# Altium footprint library SG__PCB_MiniSat.PcbLib: 12 footprints (part 2 of 2)
Each footprint in its own frame and in the unit in brackets; x right, y up, seen from the top. Pads: shape width x height; smd on the part's side, far side on the other; paste and mask are expansions set on the pad; w line width, h text height; cw(c..) or ccw(c..) is an arc to the next point about the centre after c.
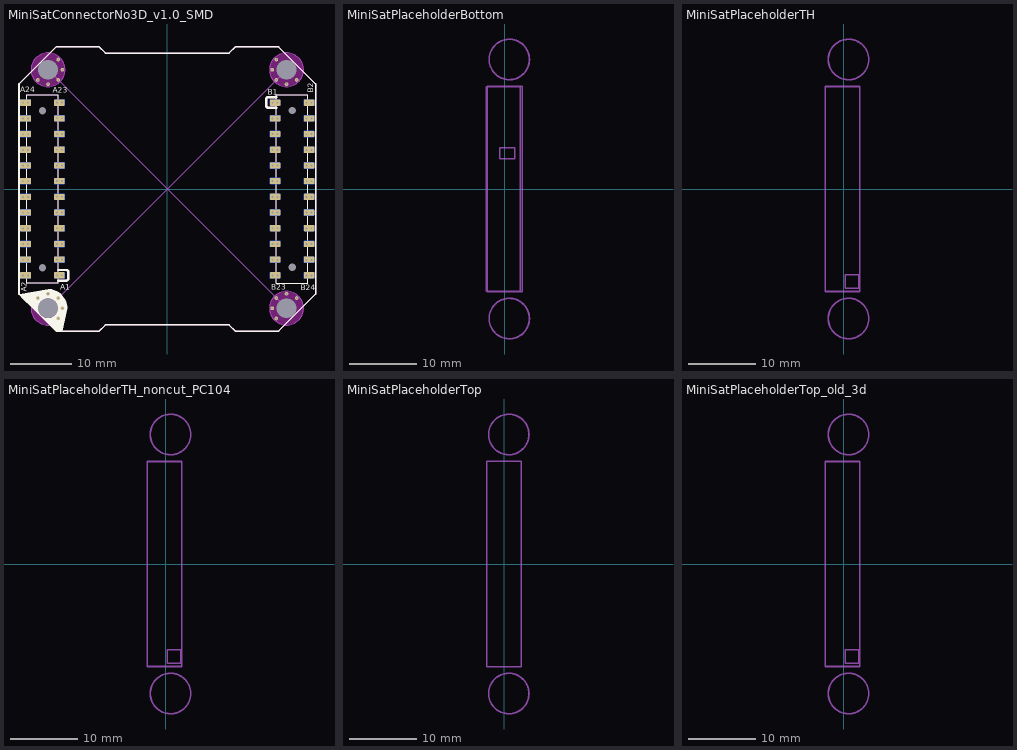
[diagram p1: the footprints below, top view; thin cyan lines are the x and y axes]

## MiniSatConnectorNo3D_v1.0_SMD [mm]
pads (220):
  round 0.6 hole 0.3 mask+0.102: 0(-20.947,-17.657) 0(-19.303,-16.973) 0(-17.657,-17.653) 0(-17.653,-20.943) 0(-16.973,-19.297)
  round 0.6 hole 0.3: 0(-20.943,17.653) 0(-19.297,16.973) 0(-17.657,20.947) 0(-17.653,17.657) 0(-16.973,19.303) 0(16.973,19.297) 0(16.973,-19.303) 0(17.653,20.943) 0(17.653,-17.657) 0(17.657,17.653) 0(17.657,-20.947) 0(19.297,-16.973) 0(19.303,16.973) 0(20.943,-17.653) 0(20.947,17.657) A1(-17.85,-13.965) A1(-17.05,-13.965) A2(-23.35,-13.995) A2(-22.55,-13.995) A3(-17.85,-11.425) A3(-17.05,-11.425) A4(-23.35,-11.455) A4(-22.55,-11.455) A5(-17.85,-8.885) A5(-17.05,-8.885) A6(-23.35,-8.915) A6(-22.55,-8.915) A7(-17.85,-6.345) A7(-17.05,-6.345) A8(-23.35,-6.375) A8(-22.55,-6.375) A9(-17.85,-3.805) A9(-17.05,-3.805) A10(-23.35,-3.835) A10(-22.55,-3.835) A11(-17.85,-1.265) A11(-17.05,-1.265) A12(-23.35,-1.295) A12(-22.55,-1.295) A13(-17.85,1.275) A13(-17.05,1.275) A14(-23.35,1.245) A14(-22.55,1.245) A15(-17.85,3.815) A15(-17.05,3.815) A16(-23.35,3.785) A16(-22.55,3.785) A17(-17.85,6.355) A17(-17.05,6.355) A18(-23.35,6.325) A18(-22.55,6.325) A19(-17.85,8.895) A19(-17.05,8.895) A20(-23.35,8.865) A20(-22.55,8.865) A21(-17.85,11.46) A21(-17.05,11.46) A22(-23.35,11.43) A22(-22.55,11.43) A23(-17.85,14) A23(-17.05,14) A24(-23.35,13.97) A24(-22.55,13.97) B1(17.05,13.968) B1(17.85,13.959) B2(22.55,13.95) B2(23.35,13.959) B3(17.05,11.428) B3(17.85,11.419) B4(22.55,11.41) B4(23.35,11.419) B5(17.05,8.888) B5(17.85,8.879) B6(22.55,8.87) B6(23.35,8.879) B7(17.05,6.348) B7(17.85,6.339) B8(22.55,6.33) B8(23.35,6.339) B9(17.05,3.808) B9(17.85,3.799) B10(22.55,3.79) B10(23.35,3.799) B11(17.05,1.268) B11(17.85,1.259) B12(22.55,1.25) B12(23.35,1.259) B13(17.05,-1.272) B13(17.85,-1.281) B14(22.55,-1.29) B14(23.35,-1.281) B15(17.05,-3.812) B15(17.85,-3.821) B16(22.55,-3.83) B16(23.35,-3.821) B17(17.05,-6.352) B17(17.85,-6.361) B18(22.55,-6.37) B18(23.35,-6.361) B19(17.05,-8.892) B19(17.85,-8.901) B20(22.55,-8.91) B20(23.35,-8.901) B21(17.05,-11.457) B21(17.85,-11.466) B22(22.55,-11.475) B22(23.35,-11.466) B23(17.05,-13.997) B23(17.85,-14.006) B24(22.55,-14.015) B24(23.35,-14.006)
  round 0 hole 1.2 unplated: 2(-20.2,12.675) 2(-20.2,-12.76) 2(20.2,12.703) 2(20.2,-12.697)
  rrect25% 1.7x1 smd: A1(-17.45,-13.97) A3(-17.45,-11.43) A5(-17.45,-8.89) A7(-17.45,-6.35) A9(-17.45,-3.81) A11(-17.45,-1.27) A13(-17.45,1.27) A15(-17.45,3.81) A17(-17.45,6.35) A19(-17.45,8.89) A21(-17.45,11.43) A23(-17.45,13.97) B1(17.45,13.973) B2(22.95,13.973) B3(17.45,11.433) B4(22.95,11.433) B5(17.45,8.893) B6(22.95,8.893) B7(17.45,6.353) B8(22.95,6.353) B9(17.45,3.813) B10(22.95,3.813) B11(17.45,1.273) B12(22.95,1.273) B13(17.45,-1.267) B14(22.95,-1.267) B15(17.45,-3.807) B16(22.95,-3.807) B17(17.45,-6.347) B18(22.95,-6.347) B19(17.45,-8.887) B20(22.95,-8.887) B21(17.45,-11.427) B22(22.95,-11.427) B23(17.45,-13.967) B24(22.95,-13.967)
  rrect25% 1.7x1 smd far side: A1(-17.45,-13.97) A2(-22.95,-13.97) A3(-17.45,-11.43) A4(-22.95,-11.43) A5(-17.45,-8.89) A6(-22.95,-8.89) A7(-17.45,-6.35) A8(-22.95,-6.35) A9(-17.45,-3.81) A10(-22.95,-3.81) A11(-17.45,-1.27) A12(-22.95,-1.27) A13(-17.45,1.27) A14(-22.95,1.27) A15(-17.45,3.81) A16(-22.95,3.81) A17(-17.45,6.35) A18(-22.95,6.35) A19(-17.45,8.89) A20(-22.95,8.89) A21(-17.45,11.43) A22(-22.95,11.43) A23(-17.45,13.97) A24(-22.95,13.97) B1(17.45,13.973) B2(22.95,13.973) B3(17.45,11.433) B4(22.95,11.433) B5(17.45,8.893) B6(22.95,8.893) B7(17.45,6.353) B8(22.95,6.353) B9(17.45,3.813) B10(22.95,3.813) B11(17.45,1.309) B12(22.95,1.273) B13(17.45,-1.231) B14(22.95,-1.267) B15(17.45,-3.807) B16(22.95,-3.807) B17(17.45,-6.347) B18(22.95,-6.347) B19(17.45,-8.887) B20(22.95,-8.887) B21(17.45,-11.427) B22(22.95,-11.427) B23(17.45,-13.967) B24(22.95,-13.967)
  rrect25% 1.8x1 smd: A2(-22.95,-13.97) A4(-22.95,-11.43) A6(-22.95,-8.89) A8(-22.95,-6.35) A10(-22.95,-3.81) A12(-22.95,-1.27) A14(-22.95,1.27) A16(-22.95,3.81) A18(-22.95,6.35) A20(-22.95,8.89) A22(-22.95,11.43) A24(-22.95,13.97)
  round 1 hole 3.2 unplated mask-0.5: NC(-19.3,-19.3) NC(-19.3,19.3) NC(19.3,-19.3) NC(19.3,19.3)
Top Overlay:
  region: -17,-23 -16.2,-19.3 -16.2,-19.097 -16.253,-18.694 -16.358,-18.301 -16.514,-17.926 -16.717,-17.574 -16.964,-17.252 -17.252,-16.964 -17.574,-16.717 -17.926,-16.514 -18.301,-16.358 -18.694,-16.253 -19.097,-16.2 -19.3,-16.2 -24,-17 -23.567,-17.6 -19.3,-17.7 -19.143,-17.708 -18.836,-17.769 -18.546,-17.889 -18.285,-18.063 -18.063,-18.285 -17.889,-18.546 -17.769,-18.836 -17.708,-19.143 -17.7,-19.3 -17.5,-23
  region: -17.7,-19.3 -17.708,-19.457 -17.769,-19.764 -17.889,-20.054 -18.063,-20.315 -18.285,-20.537 -18.546,-20.711 -18.836,-20.831 -19.143,-20.892 -19.3,-20.9 -19.457,-20.892 -19.764,-20.831 -20.054,-20.711 -20.315,-20.537 -20.537,-20.315 -20.711,-20.054 -20.831,-19.765 -20.892,-19.457 -20.9,-19.3 -20.892,-19.143 -20.831,-18.836 -20.711,-18.546 -20.537,-18.285 -20.315,-18.063 -20.054,-17.889 -19.765,-17.769 -19.457,-17.708 -19.3,-17.7 -19.3,-17.6 -23.567,-17.6 -18,-22.975 -17.225,-22.975 -17.066,-19.3
  lines w0.2: -22.74,-15.21 -17.66,-15.21 -17.66,15.27 -22.74,15.27 -22.74,-15.21 ; 17.66,-15.231 22.74,-15.231 22.74,15.249 17.66,15.249 17.66,-15.231
  lines w0.254: -24,-17 -18,-23 -11,-23 -10,-22 10,-22 11,-23 18,-23 24,-17 24,17 18,23 11,23 10,22 -10,22 -11,23 -18,23 -24,17 -24,-17
  lines w0.381: -17.653,-14.833 -16.358,-14.833 ccw(c-16.358,-14.503) -16.027,-14.503 -16.027,-13.436 ccw(c-16.358,-13.436) -16.358,-13.106 -17.628,-13.106 ; 17.628,13.145 16.358,13.145 cw(c16.358,13.476) 16.027,13.476 16.027,14.542 cw(c16.358,14.542) 16.358,14.873 17.653,14.873
  text "B23" at 16.813,-16.305 h0.9
  text "B24" at 21.593,-16.363 h0.9
  text "A1" at -17.323,-16.314 h0.9
  text "B1" at 16.285,15.222 h0.9
  text "A2" at -22.747,-16.668 h0.9
  text "A23" at -18.54,15.559 h0.9
  text "A24" at -23.806,15.622 h0.9
  text "B2" at 23.658,15.571 h0.9
Bottom Overlay:
  region: -17.7,-19.3 -17.708,-19.457 -17.769,-19.764 -17.889,-20.054 -18.063,-20.315 -18.285,-20.537 -18.546,-20.711 -18.836,-20.831 -19.143,-20.892 -19.3,-20.9 -19.457,-20.892 -19.764,-20.831 -20.054,-20.711 -20.315,-20.537 -20.537,-20.315 -20.711,-20.054 -20.831,-19.765 -20.892,-19.457 -20.9,-19.3 -20.892,-19.143 -20.831,-18.836 -20.711,-18.546 -20.537,-18.285 -20.315,-18.063 -20.054,-17.889 -19.765,-17.769 -19.457,-17.708 -19.3,-17.7 -19.3,-17.6 -23.567,-17.6 -18,-23 -17.066,-23 -17.066,-19.3
  region: -17,-23 -16.2,-19.3 -16.2,-19.097 -16.253,-18.694 -16.358,-18.301 -16.514,-17.926 -16.717,-17.574 -16.964,-17.252 -17.252,-16.964 -17.574,-16.717 -17.926,-16.514 -18.301,-16.358 -18.694,-16.253 -19.097,-16.2 -19.3,-16.2 -24,-17 -23.567,-17.6 -19.3,-17.7 -19.143,-17.708 -18.836,-17.769 -18.546,-17.889 -18.285,-18.063 -18.063,-18.285 -17.889,-18.546 -17.769,-18.836 -17.708,-19.143 -17.7,-19.3 -17.612,-23
  lines w0.2: -22.74,-15.21 -17.66,-15.21 -17.66,15.27 -22.74,15.27 -22.74,-15.21 ; 17.66,-15.231 22.74,-15.231 22.74,15.249 17.66,15.249 17.66,-15.231
  lines w0.254: -24,-17 -18,-23 -11,-23 -10,-22 10,-22 11,-23 18,-23 24,-17 24,17 18,23 11,23 10,22 -10,22 -11,23 -18,23 -24,17 -24,-17
  lines w0.381: -17.653,-14.838 -16.358,-14.838 ccw(c-16.358,-14.508) -16.027,-14.508 -16.027,-13.441 ccw(c-16.358,-13.441) -16.358,-13.111 -17.628,-13.111 ; -17.653,-14.833 -16.358,-14.833 ccw(c-16.358,-14.503) -16.027,-14.503 -16.027,-13.436 ccw(c-16.358,-13.436) -16.358,-13.106 -17.628,-13.106 ; 17.628,13.145 16.358,13.145 cw(c16.358,13.476) 16.027,13.476 16.027,14.542 cw(c16.358,14.542) 16.358,14.873 17.653,14.873
  text "A23" at -16.117,15.633 h0.9
  text "A24" at -21.329,15.611 h0.9
  text "A1" at -16.16,-16.349 h0.9
  text "B1" at 17.295,15.264 h0.9
  text "A2" at -22.752,-15.199 h0.9
  text "B2" at 23.671,16.896 h0.9
  text "B23" at 18.782,-16.35 h0.9
  text "B24" at 23.583,-16.365 h0.9
Top Solder:
  drawing of 3 lines, arcs and shapes, not listed
Bottom Solder:
  drawing of 3 lines, arcs and shapes, not listed
Keep-Out Layer:
  drawing of 4 lines, arcs and shapes, not listed
Top Assembly:
  lines w0.2: -22.74,-15.214 -22.74,15.266 -17.66,15.266 -17.66,-15.214 -22.74,-15.214 ; 17.66,-15.231 22.74,-15.231 22.74,15.249 17.66,15.249 17.66,-15.231
  lines w0.381: -17.653,-14.833 -16.358,-14.833 ccw(c-16.358,-14.503) -16.027,-14.503 -16.027,-13.436 ccw(c-16.358,-13.436) -16.358,-13.106 -17.628,-13.106 ; 17.628,13.145 16.358,13.145 cw(c16.358,13.476) 16.027,13.476 16.027,14.542 cw(c16.358,14.542) 16.358,14.873 17.653,14.873
Bottom Assembly:
  lines w0.2: -22.74,-15.21 -22.74,15.27 -17.66,15.27 -17.66,-15.21 -22.74,-15.21 ; 17.66,-15.231 22.74,-15.231 22.74,15.249 17.66,15.249 17.66,-15.231
  lines w0.381: -17.653,-14.833 -16.358,-14.833 ccw(c-16.358,-14.503) -16.027,-14.503 -16.027,-13.436 ccw(c-16.358,-13.436) -16.358,-13.106 -17.628,-13.106 ; 17.628,13.145 16.358,13.145 cw(c16.358,13.476) 16.027,13.476 16.027,14.542 cw(c16.358,14.542) 16.358,14.873 17.653,14.873
Board Shape:
  lines w0.254: -24,-17 -24,17 -18,23 -11,23 -10,22 10,22 11,23 18,23 24,17 24,-17 18,-23 11,-23 10,-22 -10,-22 -11,-23 -18,-23 -24,-17
Dimensions:
  circle w0.152: c-19.3,19.3 r2.75
  circle w0.152: c19.3,19.3 r2.75
  circle w0.152: c19.3,-19.3 r2.75
  circle w0.152: c-19.3,-19.3 r2.75
  lines w0.152: -19.3,-19.3 19.3,19.3 ; -19.3,19.3 19.3,-19.3
3D body: height 0.1, standoff 0, extent -23.65,-16.7 -23.15,-16.1

## MiniSatPlaceholderBottom [mm]
Bottom Assembly:
  circle w0.254: c0.7,19.3 r3.002
  circle w0.254: c0.7,-19.3 r3.002
  lines w0.2: -2.74,-15.235 -2.74,15.245 2.34,15.245 2.34,-15.235 -2.74,-15.235 ; -0.688,4.5 1.5,4.5 1.5,6.145 -0.688,6.145 -0.688,4.5
Bottom Courtyard:
  lines w0.2: -2.6,-15.3 2.6,-15.3 2.6,15.3 -2.6,15.3 -2.6,-15.3
Dimensions:
  circle w0.152: c0.7,-19.3 r3.05
  circle w0.152: c0.7,19.3 r3.05
3D body "User Library-24-pin SMT header.STEP": height 10.3, standoff -0.01, extent -4.308,-15.141 3.695,15.339

## MiniSatPlaceholderTH [mm]
Top Assembly:
  circle w0.254: c0.7,-19.3 r3.01
  circle w0.254: c0.7,19.3 r3.01
  lines w0.2: -2.74,-15.24 -2.74,15.24 2.34,15.24 2.34,-15.24 -2.74,-15.24 ; 0.2,-14.8 0.2,-12.8 2.2,-12.8 2.2,-14.8 0.2,-14.8
Top Courtyard:
  lines w0.2: -2.8,-15.3 -2.8,15.286 2.371,15.286 2.371,-15.3 -2.8,-15.3
Dimensions:
  circle w0.152: c0.7,19.3 r3.05
  circle w0.152: c0.7,-19.3 r3.05
3D body "ESQ-112-13-G-D.STEP": height 8.61, standoff -9.81, extent -2.732,-15.431 2.221,15.557

## MiniSatPlaceholderTH_noncut_PC104 [mm]
Top Assembly:
  circle w0.254: c0.7,19.3 r3.01
  circle w0.254: c0.7,-19.3 r3.01
  lines w0.2: -2.74,-15.24 2.34,-15.24 2.34,15.24 -2.74,15.24 -2.74,-15.24 ; 0.2,-14.8 2.2,-14.8 2.2,-12.8 0.2,-12.8 0.2,-14.8
Top Courtyard:
  lines w0.2: -2.8,-15.3 2.371,-15.3 2.371,15.286 -2.8,15.286 -2.8,-15.3
Dimensions:
  circle w0.152: c0.7,-19.3 r3.05
  circle w0.152: c0.7,19.3 r3.05
3D body "esq-112-14-g-d.stp": height 11.21, standoff -12.03, extent -2.74,-15.494 2.34,15.494

## MiniSatPlaceholderTop [mm]
Top Assembly:
  circle w0.254: c0.7,19.3 r3.01
  circle w0.254: c0.7,-19.3 r3.01
  lines w0.2: -2.585,-15.293 2.585,-15.293 2.585,15.293 -2.585,15.293 -2.585,-15.293
Top Courtyard:
  lines w0.2: -2.585,-15.293 2.585,-15.293 2.585,15.293 -2.585,15.293 -2.585,-15.293
Dimensions:
  circle w0.152: c0.7,-19.3 r3.05
  circle w0.152: c0.7,19.3 r3.05
3D body "User Library-2214SM-24G-75-PG.step": height 7.5, standoff -1, extent -3.839,-15.165 3.361,15.315

## MiniSatPlaceholderTop_old_3d [mm]
Top Assembly:
  circle w0.254: c0.7,19.3 r3.01
  circle w0.254: c0.7,-19.3 r3.01
  lines w0.2: -2.74,-15.24 2.34,-15.24 2.34,15.24 -2.74,15.24 -2.74,-15.24 ; 0.2,-14.8 2.2,-14.8 2.2,-12.8 0.2,-12.8 0.2,-14.8
Top Courtyard:
  lines w0.2: -2.8,-15.3 2.371,-15.3 2.371,15.286 -2.8,15.286 -2.8,-15.3
Dimensions:
  circle w0.152: c0.7,-19.3 r3.05
  circle w0.152: c0.7,19.3 r3.05
3D body "c-1-969973-2-e-3d.stp": height 6.2, standoff 0, extent -3.825,-15.14 3.825,15.14